# Altium footprint library Xtals.PcbLib: 98 footprints (part 7 of 7)
Each footprint in its own frame and in the unit in brackets; x right, y up, seen from the top. Pads: shape width x height; smd on the part's side, far side on the other; paste and mask are expansions set on the pad; w line width, h text height; cw(c..) or ccw(c..) is an arc to the next point about the centre after c.
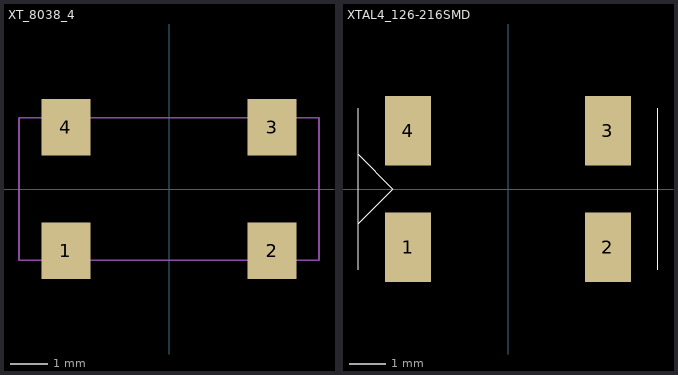
[diagram p6: the footprints below, top view; thin cyan lines are the x and y axes]

## XT_8038_4 [mm]
height 2.54
pads (4):
  rect 1.3x1.5 smd: 1(-2.75,-1.65) 2(2.75,-1.65) 3(2.75,1.65) 4(-2.75,1.65)
Mechanical 13:
  lines w0.051: -4,-1.9 -4,1.9 4,1.9 4,-1.9 -4,-1.9
3D body "SW3dPS-ZM206.STEP": height 2.43, standoff -0.1, extent -4.012,-1.9 3.988,1.9

## XTAL4_126-216SMD [mil] "XTAL4_126-216SMD"
pads (4):
  rect 50x75 smd mask+2: 1(-108.2,-63) 2(108.3,-63) 3(108.3,63) 4(-108.2,63)
Top Overlay:
  lines w1: -162.5,-87.5 -162.5,87.5 ; -162.5,-37.5 -125,0 -162.5,37.5 ; 162.5,-87.5 162.5,87.5